# EAGLE library part MICRO-USB (library battery)
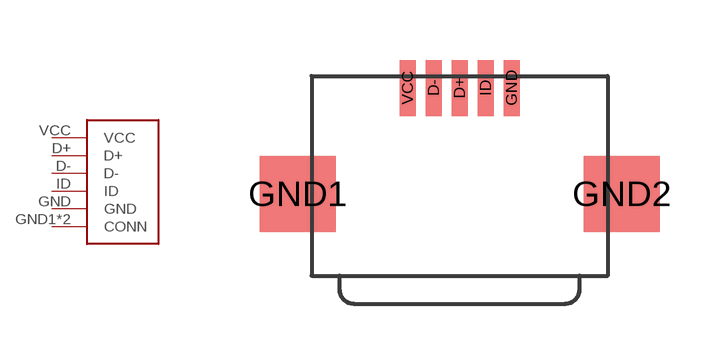
[diagram p1: symbol with the pads of MICRO-USB; footprint MICRO-USB]

Designator prefix -

## MICRO-USB  [MICRO-USB]
D+  D+
D-  D-
GND  GND
GND1  CONN
GND2  CONN
ID  ID
VCC  VCC

## Footprint MICRO-USB (pad centres in mm)
smd 0.4 x 1.4: D+ 1.3,0; D- 0.65,0; GND 2.6,0; ID 1.95,0; VCC 0,0
smd 1.9 x 1.9: GND1 -2.75,-2.65; GND2 5.35,-2.65